# EAGLE library part 658511223050 (library WR-BTB)
WR-BTB Board to Board Characteristics Insulator flammability rating: UL94 V-0 Defined board to board distance from 5.00 mm up to 16.00 mm Available pin-counts: 64 pins (1.0 mm version) / 40, 80 or 100 pins (0.8 mm version) Contact plating: selective gold Operating temperature: -55 °C up to +85 °C Quality class: 30 mating cycles Contact resistance: 30 mΩ Working Voltage: 100 V (AC) UL approval: E323964 Applications Board-to-board connection for secure and fast data connections Defined PCB spacing In conjunction with SMT spacers or threaded spacers, a stable connection of stacked PCBs. <https://www.we-online.com/components/media/o790799v209%20WR-BTB_Gruppe.jpg> Details see: www.we-online.com/en/components/products/WR_BTB <www.we-online.com/catalog/WR_BTB/?utm_source=eagle_model&utm_medium=description_link&utm_campaign=eisos_eagle> Created by Ella 2025-05-14 2025(C) Würth Elektronik
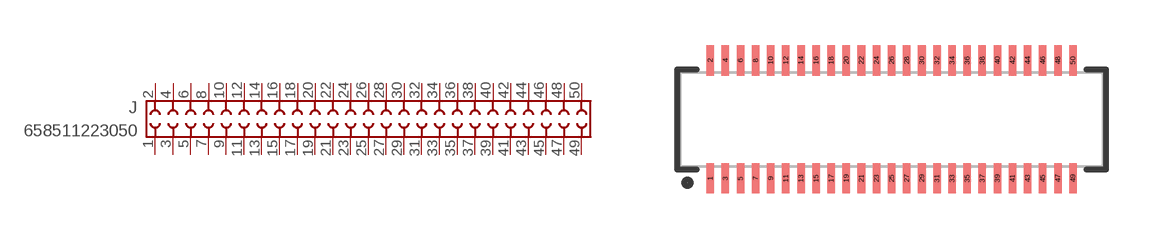
[diagram p9: symbol with the pads of 658511223050; footprint 658511223050]

Designator prefix J

## 658511223050 (DATASHEET-URL: https://www.we-online.com/redexpert/spec/658511223050?ae; GENDER: Receptacle; HEIGHT: 1.2mm; IR: 300mA; MOUNT: SMT; PACKAGING: Tape and Reel with Cap; PART-NUMBER: 658511223050; PINS: 50; PITCH: 0.5mm; TYPE: Vertical; VALUE: 658511223050)  [658511223050]
1  1  pas
2  2  pas
3  3  pas
4  4  pas
5  5  pas
6  6  pas
7  7  pas
8  8  pas
9  9  pas
10  10  pas
11  11  pas
12  12  pas
13  13  pas
14  14  pas
15  15  pas
16  16  pas
17  17  pas
18  18  pas
19  19  pas
20  20  pas
21  21  pas
22  22  pas
23  23  pas
24  24  pas
25  25  pas
26  26  pas
27  27  pas
28  28  pas
29  29  pas
30  30  pas
31  31  pas
32  32  pas
33  33  pas
34  34  pas
35  35  pas
36  36  pas
37  37  pas
38  38  pas
39  39  pas
40  40  pas
41  41  pas
42  42  pas
43  43  pas
44  44  pas
45  45  pas
46  46  pas
47  47  pas
48  48  pas
49  49  pas
50  50  pas

## Footprint 658511223050 (pad centres in mm)
WR-BTB Board to Board Pitch: 0.5mm, Receptacle, 50pins, SMT Height = 1.2mm
smd 0.25 x 1: 1 -6,-1.95; 2 -6,1.95; 3 -5.5,-1.95; 4 -5.5,1.95; 5 -5,-1.95; 6 -5,1.95; 7 -4.5,-1.95; 8 -4.5,1.95; 9 -4,-1.95; 10 -4,1.95; 11 -3.5,-1.95; 12 -3.5,1.95; 13 -3,-1.95; 14 -3,1.95; 15 -2.5,-1.95; 16 -2.5,1.95; 17 -2,-1.95; 18 -2,1.95; 19 -1.5,-1.95; 20 -1.5,1.95; 21 -1,-1.95; 22 -1,1.95; 23 -0.5,-1.95; 24 -0.5,1.95; 25 0,-1.95; 26 0,1.95; 27 0.5,-1.95; 28 0.5,1.95; 29 1,-1.95; 30 1,1.95; 31 1.5,-1.95; 32 1.5,1.95; 33 2,-1.95; 34 2,1.95; 35 2.5,-1.95; 36 2.5,1.95; 37 3,-1.95; 38 3,1.95; 39 3.5,-1.95; 40 3.5,1.95; 41 4,-1.95; 42 4,1.95; 43 4.5,-1.95; 44 4.5,1.95; 45 5,-1.95; 46 5,1.95; 47 5.5,-1.95; 48 5.5,1.95; 49 6,-1.95; 50 6,1.95